# Altium integrated library ST Simple PLD.IntLib: 38 symbols
Pins are listed as number, name and electrical type; pins without a type are passive.

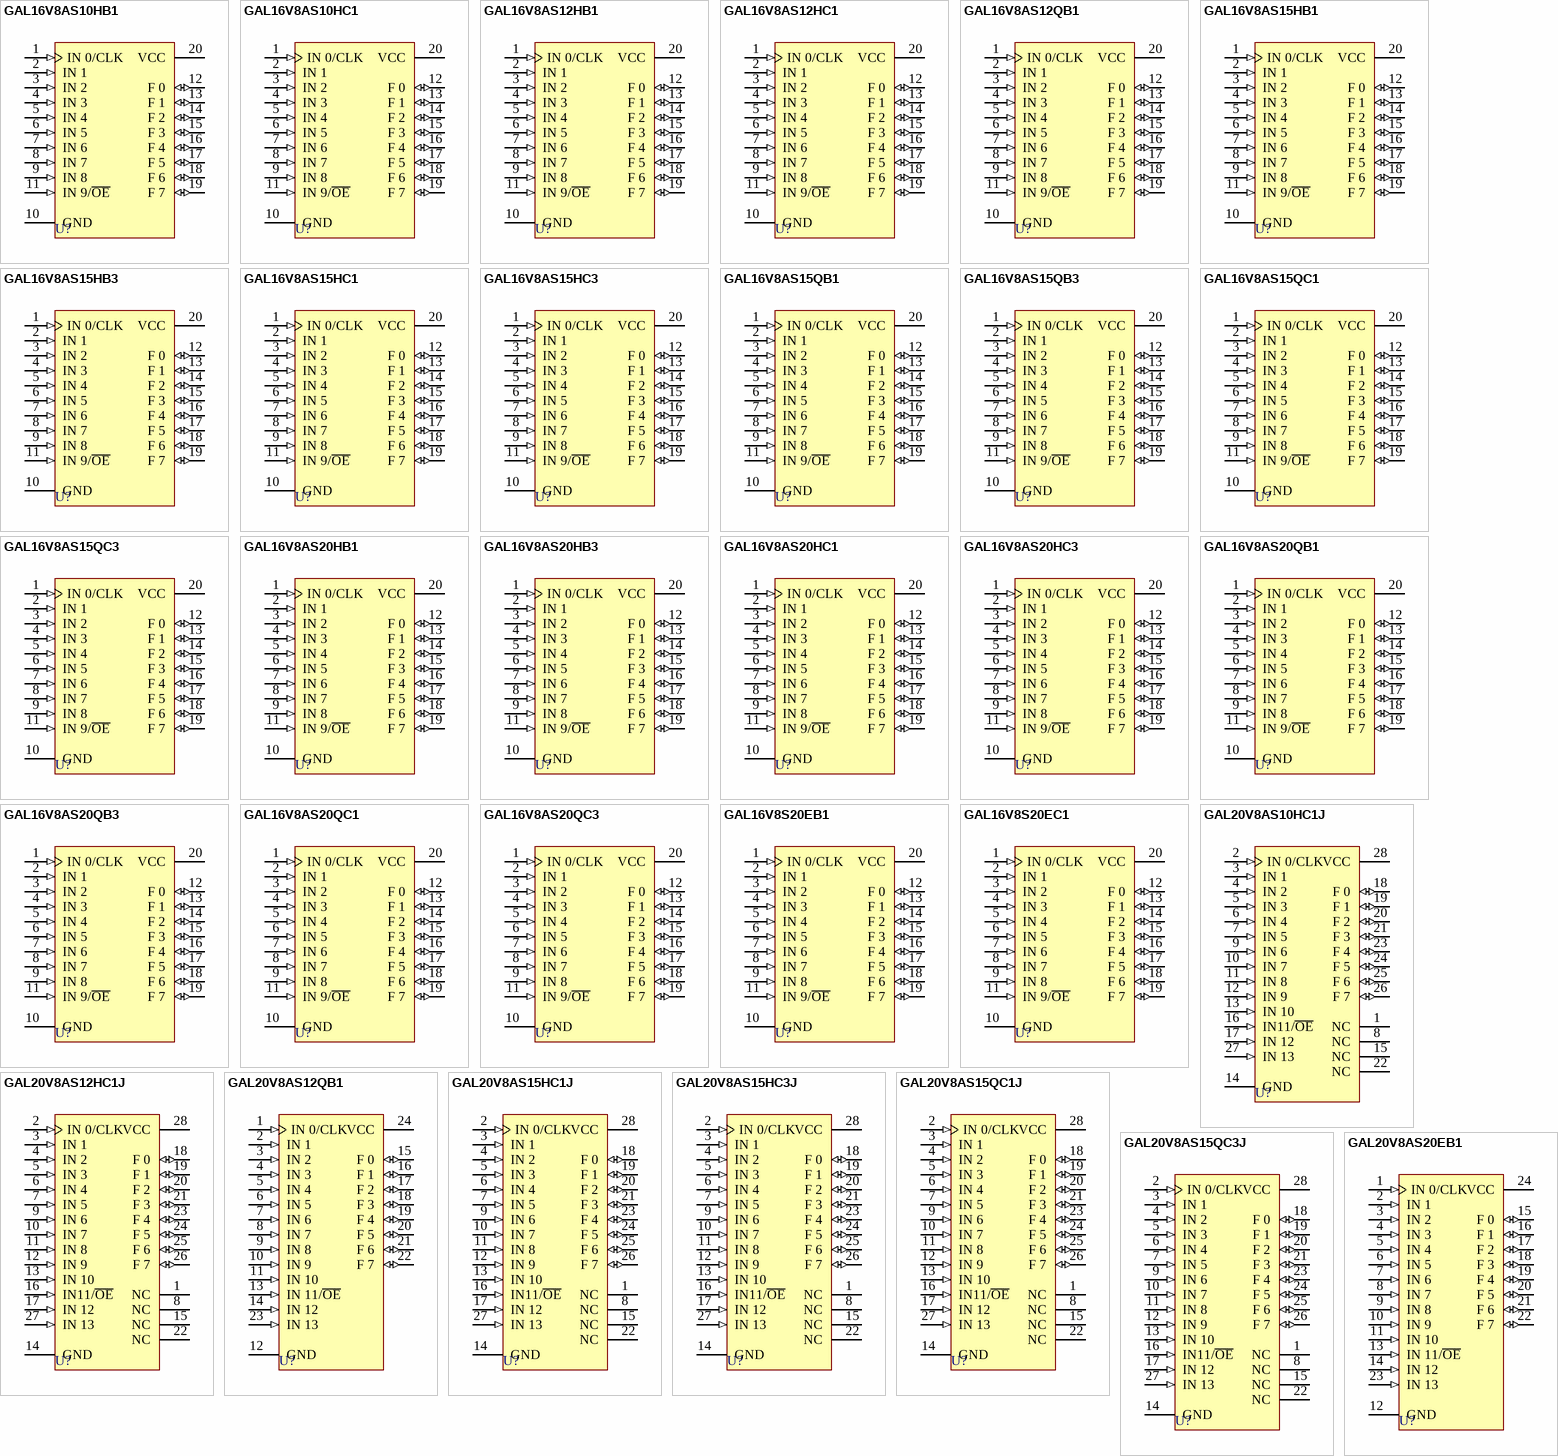
[diagram p0: symbols GAL16V8AS10HB1 to GAL20V8AS20EB1]

## GAL16V8AS10HB1
designator U?
EEPROM CMOS Programmable Logic Device; Published: 24-Aug-2001; LatestRevisionDate: 17-Jul-2002; LatestRevisionNote: Re-released for DXP Platform.; DatasheetDocument: Mar-1992; PackageDocument: Jun-1998; PackageReference: DIP20; Publisher: Altium Limited; Code_JEDEC: MS-015-AE
footprint DIP20 (DIP; 20 Leads; Row Spacing 7.62 mm; Pitch 2.54 mm)
pins: 1 IN 0/CLK (in), 2 IN 1 (in), 3 IN 2 (in), 4 IN 3 (in), 5 IN 4 (in), 6 IN 5 (in), 7 IN 6 (in), 8 IN 7 (in), 9 IN 8 (in), 10 GND (power), 11 IN 9/~{OE} (in), 12 F 0 (io), 13 F 1 (io), 14 F 2 (io), 15 F 3 (io), 16 F 4 (io), 17 F 5 (io), 18 F 6 (io), 19 F 7 (io), 20 VCC (power)

## GAL16V8AS10HC1
designator U?
EEPROM CMOS Programmable Logic Device; Published: 24-Aug-2001; LatestRevisionDate: 17-Jul-2002; LatestRevisionNote: Re-released for DXP Platform.; DatasheetDocument: Mar-1992; PackageDocument: Mar-1992; PackageReference: PLCC20; Publisher: Altium Limited
footprint PLCC20 (Leaded Chip Carrier; 20 Leads; Body 9 x 9 mm)
pins: 1 IN 0/CLK (in), 2 IN 1 (in), 3 IN 2 (in), 4 IN 3 (in), 5 IN 4 (in), 6 IN 5 (in), 7 IN 6 (in), 8 IN 7 (in), 9 IN 8 (in), 10 GND (power), 11 IN 9/~{OE} (in), 12 F 0 (io), 13 F 1 (io), 14 F 2 (io), 15 F 3 (io), 16 F 4 (io), 17 F 5 (io), 18 F 6 (io), 19 F 7 (io), 20 VCC (power)

## GAL16V8AS12HB1
designator U?
EEPROM CMOS Programmable Logic Device; Published: 24-Aug-2001; LatestRevisionDate: 17-Jul-2002; LatestRevisionNote: Re-released for DXP Platform.; DatasheetDocument: Mar-1992; PackageDocument: Jun-1998; PackageReference: DIP20; Publisher: Altium Limited; Code_JEDEC: MS-015-AE
footprint DIP20 (DIP; 20 Leads; Row Spacing 7.62 mm; Pitch 2.54 mm)
pins: 1 IN 0/CLK (in), 2 IN 1 (in), 3 IN 2 (in), 4 IN 3 (in), 5 IN 4 (in), 6 IN 5 (in), 7 IN 6 (in), 8 IN 7 (in), 9 IN 8 (in), 10 GND (power), 11 IN 9/~{OE} (in), 12 F 0 (io), 13 F 1 (io), 14 F 2 (io), 15 F 3 (io), 16 F 4 (io), 17 F 5 (io), 18 F 6 (io), 19 F 7 (io), 20 VCC (power)

## GAL16V8AS12HC1
designator U?
EEPROM CMOS Programmable Logic Device; Published: 24-Aug-2001; LatestRevisionDate: 17-Jul-2002; LatestRevisionNote: Re-released for DXP Platform.; DatasheetDocument: Mar-1992; PackageDocument: Mar-1992; PackageReference: PLCC20; Publisher: Altium Limited
footprint PLCC20 (Leaded Chip Carrier; 20 Leads; Body 9 x 9 mm)
pins: 1 IN 0/CLK (in), 2 IN 1 (in), 3 IN 2 (in), 4 IN 3 (in), 5 IN 4 (in), 6 IN 5 (in), 7 IN 6 (in), 8 IN 7 (in), 9 IN 8 (in), 10 GND (power), 11 IN 9/~{OE} (in), 12 F 0 (io), 13 F 1 (io), 14 F 2 (io), 15 F 3 (io), 16 F 4 (io), 17 F 5 (io), 18 F 6 (io), 19 F 7 (io), 20 VCC (power)

## GAL16V8AS12QB1
designator U?
EEPROM CMOS Programmable Logic Device; Published: 24-Aug-2001; LatestRevisionDate: 17-Jul-2002; LatestRevisionNote: Re-released for DXP Platform.; DatasheetDocument: Mar-1992; PackageDocument: Jun-1998; PackageReference: DIP20; Publisher: Altium Limited; Code_JEDEC: MS-015-AE
footprint DIP20 (DIP; 20 Leads; Row Spacing 7.62 mm; Pitch 2.54 mm)
pins: 1 IN 0/CLK (in), 2 IN 1 (in), 3 IN 2 (in), 4 IN 3 (in), 5 IN 4 (in), 6 IN 5 (in), 7 IN 6 (in), 8 IN 7 (in), 9 IN 8 (in), 10 GND (power), 11 IN 9/~{OE} (in), 12 F 0 (io), 13 F 1 (io), 14 F 2 (io), 15 F 3 (io), 16 F 4 (io), 17 F 5 (io), 18 F 6 (io), 19 F 7 (io), 20 VCC (power)

## GAL16V8AS15HB1
designator U?
EEPROM CMOS Programmable Logic Device; Published: 24-Aug-2001; LatestRevisionDate: 17-Jul-2002; LatestRevisionNote: Re-released for DXP Platform.; DatasheetDocument: Mar-1992; PackageDocument: Jun-1998; PackageReference: DIP20; Publisher: Altium Limited; Code_JEDEC: MS-015-AE
footprint DIP20 (DIP; 20 Leads; Row Spacing 7.62 mm; Pitch 2.54 mm)
pins: 1 IN 0/CLK (in), 2 IN 1 (in), 3 IN 2 (in), 4 IN 3 (in), 5 IN 4 (in), 6 IN 5 (in), 7 IN 6 (in), 8 IN 7 (in), 9 IN 8 (in), 10 GND (power), 11 IN 9/~{OE} (in), 12 F 0 (io), 13 F 1 (io), 14 F 2 (io), 15 F 3 (io), 16 F 4 (io), 17 F 5 (io), 18 F 6 (io), 19 F 7 (io), 20 VCC (power)

## GAL16V8AS15HB3
designator U?
EEPROM CMOS Programmable Logic Device; Published: 24-Aug-2001; LatestRevisionDate: 17-Jul-2002; LatestRevisionNote: Re-released for DXP Platform.; DatasheetDocument: Mar-1992; PackageDocument: Jun-1998; PackageReference: DIP20; Publisher: Altium Limited; Code_JEDEC: MS-015-AE
footprint DIP20 (DIP; 20 Leads; Row Spacing 7.62 mm; Pitch 2.54 mm)
pins: 1 IN 0/CLK (in), 2 IN 1 (in), 3 IN 2 (in), 4 IN 3 (in), 5 IN 4 (in), 6 IN 5 (in), 7 IN 6 (in), 8 IN 7 (in), 9 IN 8 (in), 10 GND (power), 11 IN 9/~{OE} (in), 12 F 0 (io), 13 F 1 (io), 14 F 2 (io), 15 F 3 (io), 16 F 4 (io), 17 F 5 (io), 18 F 6 (io), 19 F 7 (io), 20 VCC (power)

## GAL16V8AS15HC1
designator U?
EEPROM CMOS Programmable Logic Device; Published: 24-Aug-2001; LatestRevisionDate: 17-Jul-2002; LatestRevisionNote: Re-released for DXP Platform.; DatasheetDocument: Mar-1992; PackageDocument: Mar-1992; PackageReference: PLCC20; Publisher: Altium Limited
footprint PLCC20 (Leaded Chip Carrier; 20 Leads; Body 9 x 9 mm)
pins: 1 IN 0/CLK (in), 2 IN 1 (in), 3 IN 2 (in), 4 IN 3 (in), 5 IN 4 (in), 6 IN 5 (in), 7 IN 6 (in), 8 IN 7 (in), 9 IN 8 (in), 10 GND (power), 11 IN 9/~{OE} (in), 12 F 0 (io), 13 F 1 (io), 14 F 2 (io), 15 F 3 (io), 16 F 4 (io), 17 F 5 (io), 18 F 6 (io), 19 F 7 (io), 20 VCC (power)

## GAL16V8AS15HC3
designator U?
EEPROM CMOS Programmable Logic Device; Published: 24-Aug-2001; LatestRevisionDate: 17-Jul-2002; LatestRevisionNote: Re-released for DXP Platform.; DatasheetDocument: Mar-1992; PackageDocument: Mar-1992; PackageReference: PLCC20; Publisher: Altium Limited
footprint PLCC20 (Leaded Chip Carrier; 20 Leads; Body 9 x 9 mm)
pins: 1 IN 0/CLK (in), 2 IN 1 (in), 3 IN 2 (in), 4 IN 3 (in), 5 IN 4 (in), 6 IN 5 (in), 7 IN 6 (in), 8 IN 7 (in), 9 IN 8 (in), 10 GND (power), 11 IN 9/~{OE} (in), 12 F 0 (io), 13 F 1 (io), 14 F 2 (io), 15 F 3 (io), 16 F 4 (io), 17 F 5 (io), 18 F 6 (io), 19 F 7 (io), 20 VCC (power)

## GAL16V8AS15QB1
designator U?
EEPROM CMOS Programmable Logic Device; Published: 24-Aug-2001; LatestRevisionDate: 17-Jul-2002; LatestRevisionNote: Re-released for DXP Platform.; DatasheetDocument: Mar-1992; PackageDocument: Jun-1998; PackageReference: DIP20; Publisher: Altium Limited; Code_JEDEC: MS-015-AE
footprint DIP20 (DIP; 20 Leads; Row Spacing 7.62 mm; Pitch 2.54 mm)
pins: 1 IN 0/CLK (in), 2 IN 1 (in), 3 IN 2 (in), 4 IN 3 (in), 5 IN 4 (in), 6 IN 5 (in), 7 IN 6 (in), 8 IN 7 (in), 9 IN 8 (in), 10 GND (power), 11 IN 9/~{OE} (in), 12 F 0 (io), 13 F 1 (io), 14 F 2 (io), 15 F 3 (io), 16 F 4 (io), 17 F 5 (io), 18 F 6 (io), 19 F 7 (io), 20 VCC (power)

## GAL16V8AS15QB3
designator U?
EEPROM CMOS Programmable Logic Device; Published: 24-Aug-2001; LatestRevisionDate: 17-Jul-2002; LatestRevisionNote: Re-released for DXP Platform.; DatasheetDocument: Mar-1992; PackageDocument: Jun-1998; PackageReference: DIP20; Publisher: Altium Limited; Code_JEDEC: MS-015-AE
footprint DIP20 (DIP; 20 Leads; Row Spacing 7.62 mm; Pitch 2.54 mm)
pins: 1 IN 0/CLK (in), 2 IN 1 (in), 3 IN 2 (in), 4 IN 3 (in), 5 IN 4 (in), 6 IN 5 (in), 7 IN 6 (in), 8 IN 7 (in), 9 IN 8 (in), 10 GND (power), 11 IN 9/~{OE} (in), 12 F 0 (io), 13 F 1 (io), 14 F 2 (io), 15 F 3 (io), 16 F 4 (io), 17 F 5 (io), 18 F 6 (io), 19 F 7 (io), 20 VCC (power)

## GAL16V8AS15QC1
designator U?
EEPROM CMOS Programmable Logic Device; Published: 24-Aug-2001; LatestRevisionDate: 17-Jul-2002; LatestRevisionNote: Re-released for DXP Platform.; DatasheetDocument: Mar-1992; PackageDocument: Mar-1992; PackageReference: PLCC20; Publisher: Altium Limited
footprint PLCC20 (Leaded Chip Carrier; 20 Leads; Body 9 x 9 mm)
pins: 1 IN 0/CLK (in), 2 IN 1 (in), 3 IN 2 (in), 4 IN 3 (in), 5 IN 4 (in), 6 IN 5 (in), 7 IN 6 (in), 8 IN 7 (in), 9 IN 8 (in), 10 GND (power), 11 IN 9/~{OE} (in), 12 F 0 (io), 13 F 1 (io), 14 F 2 (io), 15 F 3 (io), 16 F 4 (io), 17 F 5 (io), 18 F 6 (io), 19 F 7 (io), 20 VCC (power)

## GAL16V8AS15QC3
designator U?
EEPROM CMOS Programmable Logic Device; Published: 24-Aug-2001; LatestRevisionDate: 17-Jul-2002; LatestRevisionNote: Re-released for DXP Platform.; DatasheetDocument: Mar-1992; PackageDocument: Mar-1992; PackageReference: PLCC20; Publisher: Altium Limited
footprint PLCC20 (Leaded Chip Carrier; 20 Leads; Body 9 x 9 mm)
pins: 1 IN 0/CLK (in), 2 IN 1 (in), 3 IN 2 (in), 4 IN 3 (in), 5 IN 4 (in), 6 IN 5 (in), 7 IN 6 (in), 8 IN 7 (in), 9 IN 8 (in), 10 GND (power), 11 IN 9/~{OE} (in), 12 F 0 (io), 13 F 1 (io), 14 F 2 (io), 15 F 3 (io), 16 F 4 (io), 17 F 5 (io), 18 F 6 (io), 19 F 7 (io), 20 VCC (power)

## GAL16V8AS20HB1
designator U?
EEPROM CMOS Programmable Logic Device; Published: 24-Aug-2001; LatestRevisionDate: 17-Jul-2002; LatestRevisionNote: Re-released for DXP Platform.; DatasheetDocument: Mar-1992; PackageDocument: Jun-1998; PackageReference: DIP20; Publisher: Altium Limited; Code_JEDEC: MS-015-AE
footprint DIP20 (DIP; 20 Leads; Row Spacing 7.62 mm; Pitch 2.54 mm)
pins: 1 IN 0/CLK (in), 2 IN 1 (in), 3 IN 2 (in), 4 IN 3 (in), 5 IN 4 (in), 6 IN 5 (in), 7 IN 6 (in), 8 IN 7 (in), 9 IN 8 (in), 10 GND (power), 11 IN 9/~{OE} (in), 12 F 0 (io), 13 F 1 (io), 14 F 2 (io), 15 F 3 (io), 16 F 4 (io), 17 F 5 (io), 18 F 6 (io), 19 F 7 (io), 20 VCC (power)

## GAL16V8AS20HB3
designator U?
EEPROM CMOS Programmable Logic Device; Published: 24-Aug-2001; LatestRevisionDate: 17-Jul-2002; LatestRevisionNote: Re-released for DXP Platform.; DatasheetDocument: Mar-1992; PackageDocument: Jun-1998; PackageReference: DIP20; Publisher: Altium Limited; Code_JEDEC: MS-015-AE
footprint DIP20 (DIP; 20 Leads; Row Spacing 7.62 mm; Pitch 2.54 mm)
pins: 1 IN 0/CLK (in), 2 IN 1 (in), 3 IN 2 (in), 4 IN 3 (in), 5 IN 4 (in), 6 IN 5 (in), 7 IN 6 (in), 8 IN 7 (in), 9 IN 8 (in), 10 GND (power), 11 IN 9/~{OE} (in), 12 F 0 (io), 13 F 1 (io), 14 F 2 (io), 15 F 3 (io), 16 F 4 (io), 17 F 5 (io), 18 F 6 (io), 19 F 7 (io), 20 VCC (power)

## GAL16V8AS20HC1
designator U?
EEPROM CMOS Programmable Logic Device; Published: 24-Aug-2001; LatestRevisionDate: 17-Jul-2002; LatestRevisionNote: Re-released for DXP Platform.; DatasheetDocument: Mar-1992; PackageDocument: Mar-1992; PackageReference: PLCC20; Publisher: Altium Limited
footprint PLCC20 (Leaded Chip Carrier; 20 Leads; Body 9 x 9 mm)
pins: 1 IN 0/CLK (in), 2 IN 1 (in), 3 IN 2 (in), 4 IN 3 (in), 5 IN 4 (in), 6 IN 5 (in), 7 IN 6 (in), 8 IN 7 (in), 9 IN 8 (in), 10 GND (power), 11 IN 9/~{OE} (in), 12 F 0 (io), 13 F 1 (io), 14 F 2 (io), 15 F 3 (io), 16 F 4 (io), 17 F 5 (io), 18 F 6 (io), 19 F 7 (io), 20 VCC (power)

## GAL16V8AS20HC3
designator U?
EEPROM CMOS Programmable Logic Device; Published: 24-Aug-2001; LatestRevisionDate: 17-Jul-2002; LatestRevisionNote: Re-released for DXP Platform.; DatasheetDocument: Mar-1992; PackageDocument: Mar-1992; PackageReference: PLCC20; Publisher: Altium Limited
footprint PLCC20 (Leaded Chip Carrier; 20 Leads; Body 9 x 9 mm)
pins: 1 IN 0/CLK (in), 2 IN 1 (in), 3 IN 2 (in), 4 IN 3 (in), 5 IN 4 (in), 6 IN 5 (in), 7 IN 6 (in), 8 IN 7 (in), 9 IN 8 (in), 10 GND (power), 11 IN 9/~{OE} (in), 12 F 0 (io), 13 F 1 (io), 14 F 2 (io), 15 F 3 (io), 16 F 4 (io), 17 F 5 (io), 18 F 6 (io), 19 F 7 (io), 20 VCC (power)

## GAL16V8AS20QB1
designator U?
EEPROM CMOS Programmable Logic Device; Published: 24-Aug-2001; LatestRevisionDate: 17-Jul-2002; LatestRevisionNote: Re-released for DXP Platform.; DatasheetDocument: Mar-1992; PackageDocument: Jun-1998; PackageReference: DIP20; Publisher: Altium Limited; Code_JEDEC: MS-015-AE
footprint DIP20 (DIP; 20 Leads; Row Spacing 7.62 mm; Pitch 2.54 mm)
pins: 1 IN 0/CLK (in), 2 IN 1 (in), 3 IN 2 (in), 4 IN 3 (in), 5 IN 4 (in), 6 IN 5 (in), 7 IN 6 (in), 8 IN 7 (in), 9 IN 8 (in), 10 GND (power), 11 IN 9/~{OE} (in), 12 F 0 (io), 13 F 1 (io), 14 F 2 (io), 15 F 3 (io), 16 F 4 (io), 17 F 5 (io), 18 F 6 (io), 19 F 7 (io), 20 VCC (power)

## GAL16V8AS20QB3
designator U?
EEPROM CMOS Programmable Logic Device; Published: 24-Aug-2001; LatestRevisionDate: 17-Jul-2002; LatestRevisionNote: Re-released for DXP Platform.; DatasheetDocument: Mar-1992; PackageDocument: Jun-1998; PackageReference: DIP20; Publisher: Altium Limited; Code_JEDEC: MS-015-AE
footprint DIP20 (DIP; 20 Leads; Row Spacing 7.62 mm; Pitch 2.54 mm)
pins: 1 IN 0/CLK (in), 2 IN 1 (in), 3 IN 2 (in), 4 IN 3 (in), 5 IN 4 (in), 6 IN 5 (in), 7 IN 6 (in), 8 IN 7 (in), 9 IN 8 (in), 10 GND (power), 11 IN 9/~{OE} (in), 12 F 0 (io), 13 F 1 (io), 14 F 2 (io), 15 F 3 (io), 16 F 4 (io), 17 F 5 (io), 18 F 6 (io), 19 F 7 (io), 20 VCC (power)

## GAL16V8AS20QC1
designator U?
EEPROM CMOS Programmable Logic Device; Published: 24-Aug-2001; LatestRevisionDate: 17-Jul-2002; LatestRevisionNote: Re-released for DXP Platform.; DatasheetDocument: Mar-1992; PackageDocument: Mar-1992; PackageReference: PLCC20; Publisher: Altium Limited
footprint PLCC20 (Leaded Chip Carrier; 20 Leads; Body 9 x 9 mm)
pins: 1 IN 0/CLK (in), 2 IN 1 (in), 3 IN 2 (in), 4 IN 3 (in), 5 IN 4 (in), 6 IN 5 (in), 7 IN 6 (in), 8 IN 7 (in), 9 IN 8 (in), 10 GND (power), 11 IN 9/~{OE} (in), 12 F 0 (io), 13 F 1 (io), 14 F 2 (io), 15 F 3 (io), 16 F 4 (io), 17 F 5 (io), 18 F 6 (io), 19 F 7 (io), 20 VCC (power)

## GAL16V8AS20QC3
designator U?
EEPROM CMOS Programmable Logic Device; Published: 24-Aug-2001; LatestRevisionDate: 17-Jul-2002; LatestRevisionNote: Re-released for DXP Platform.; DatasheetDocument: Mar-1992; PackageDocument: Mar-1992; PackageReference: PLCC20; Publisher: Altium Limited
footprint PLCC20 (Leaded Chip Carrier; 20 Leads; Body 9 x 9 mm)
pins: 1 IN 0/CLK (in), 2 IN 1 (in), 3 IN 2 (in), 4 IN 3 (in), 5 IN 4 (in), 6 IN 5 (in), 7 IN 6 (in), 8 IN 7 (in), 9 IN 8 (in), 10 GND (power), 11 IN 9/~{OE} (in), 12 F 0 (io), 13 F 1 (io), 14 F 2 (io), 15 F 3 (io), 16 F 4 (io), 17 F 5 (io), 18 F 6 (io), 19 F 7 (io), 20 VCC (power)

## GAL16V8S20EB1
designator U?
EEPROM CMOS Programmable Logic Device; Published: 24-Aug-2001; LatestRevisionDate: 17-Jul-2002; LatestRevisionNote: Re-released for DXP Platform.; DatasheetDocument: Mar-1992; PackageDocument: Jun-1998; PackageReference: DIP20; Publisher: Altium Limited; Code_JEDEC: MS-015-AE
footprint DIP20 (DIP; 20 Leads; Row Spacing 7.62 mm; Pitch 2.54 mm)
pins: 1 IN 0/CLK (in), 2 IN 1 (in), 3 IN 2 (in), 4 IN 3 (in), 5 IN 4 (in), 6 IN 5 (in), 7 IN 6 (in), 8 IN 7 (in), 9 IN 8 (in), 10 GND (power), 11 IN 9/~{OE} (in), 12 F 0 (io), 13 F 1 (io), 14 F 2 (io), 15 F 3 (io), 16 F 4 (io), 17 F 5 (io), 18 F 6 (io), 19 F 7 (io), 20 VCC (power)

## GAL16V8S20EC1
designator U?
EEPROM CMOS Programmable Logic Device; Published: 24-Aug-2001; LatestRevisionDate: 17-Jul-2002; LatestRevisionNote: Re-released for DXP Platform.; DatasheetDocument: Mar-1992; PackageDocument: Mar-1992; PackageReference: PLCC20; Publisher: Altium Limited
footprint PLCC20 (Leaded Chip Carrier; 20 Leads; Body 9 x 9 mm)
pins: 1 IN 0/CLK (in), 2 IN 1 (in), 3 IN 2 (in), 4 IN 3 (in), 5 IN 4 (in), 6 IN 5 (in), 7 IN 6 (in), 8 IN 7 (in), 9 IN 8 (in), 10 GND (power), 11 IN 9/~{OE} (in), 12 F 0 (io), 13 F 1 (io), 14 F 2 (io), 15 F 3 (io), 16 F 4 (io), 17 F 5 (io), 18 F 6 (io), 19 F 7 (io), 20 VCC (power)

## GAL20V8AS10HC1J
designator U?
EEPROM CMOS Programmable Logic Device; Note: Pin numbers 1, 8, 15 and 22 are Not Connected (NC).; Published: 24-Aug-2001; LatestRevisionDate: 17-Jul-2002; LatestRevisionNote: Re-released for DXP Platform.; DatasheetDocument: Mar-1992; PackageDocument: Jan-1995; PackageReference: PLCC28; Publisher: Altium Limited; Code_IPC: PLCC-28
footprint PLCC28 (Leaded Chip Carrier; 28 Leads; Body 11.5 x 11.5 mm)
pins: 1 NC, 2 IN 0/CLK (in), 3 IN 1 (in), 4 IN 2 (in), 5 IN 3 (in), 6 IN 4 (in), 7 IN 5 (in), 8 NC, 9 IN 6 (in), 10 IN 7 (in), 11 IN 8 (in), 12 IN 9 (in), 13 IN 10 (in), 14 GND (power), 15 NC, 16 IN11/~{OE} (in), 17 IN 12 (in), 18 F 0 (io), 19 F 1 (io), 20 F 2 (io), 21 F 3 (io), 22 NC, 23 F 4 (io), 24 F 5 (io), 25 F 6 (io), 26 F 7 (io), 27 IN 13 (in), 28 VCC (power)

## GAL20V8AS12HC1J
designator U?
EEPROM CMOS Programmable Logic Device; Note: Pin numbers 1, 8, 15 and 22 are Not Connected (NC).; Published: 24-Aug-2001; LatestRevisionDate: 17-Jul-2002; LatestRevisionNote: Re-released for DXP Platform.; DatasheetDocument: Mar-1992; PackageDocument: Jan-1995; PackageReference: PLCC28; Publisher: Altium Limited; Code_IPC: PLCC-28
footprint PLCC28 (Leaded Chip Carrier; 28 Leads; Body 11.5 x 11.5 mm)
pins: 1 NC, 2 IN 0/CLK (in), 3 IN 1 (in), 4 IN 2 (in), 5 IN 3 (in), 6 IN 4 (in), 7 IN 5 (in), 8 NC, 9 IN 6 (in), 10 IN 7 (in), 11 IN 8 (in), 12 IN 9 (in), 13 IN 10 (in), 14 GND (power), 15 NC, 16 IN11/~{OE} (in), 17 IN 12 (in), 18 F 0 (io), 19 F 1 (io), 20 F 2 (io), 21 F 3 (io), 22 NC, 23 F 4 (io), 24 F 5 (io), 25 F 6 (io), 26 F 7 (io), 27 IN 13 (in), 28 VCC (power)

## GAL20V8AS12QB1
designator U?
EEPROM CMOS Programmable Logic Device; Published: 24-Aug-2001; LatestRevisionDate: 17-Jul-2002; LatestRevisionNote: Re-released for DXP Platform.; DatasheetDocument: Mar-1992; PackageDocument: Mar-1992; PackageReference: DIP24; Publisher: Altium Limited; Code_JEDEC: MS-001-AF
footprint DIP24 (DIP; 24 Leads; Row Spacing 7.62 mm; Pitch 2.54 mm)
pins: 1 IN 0/CLK (in), 2 IN 1 (in), 3 IN 2 (in), 4 IN 3 (in), 5 IN 4 (in), 6 IN 5 (in), 7 IN 6 (in), 8 IN 7 (in), 9 IN 8 (in), 10 IN 9 (in), 11 IN 10 (in), 12 GND (power), 13 IN 11/~{OE} (in), 14 IN 12 (in), 15 F 0 (io), 16 F 1 (io), 17 F 2 (io), 18 F 3 (io), 19 F 4 (io), 20 F 5 (io), 21 F 6 (io), 22 F 7 (io), 23 IN 13 (in), 24 VCC (power)

## GAL20V8AS15HC1J
designator U?
EEPROM CMOS Programmable Logic Device; Note: Pin numbers 1, 8, 15 and 22 are Not Connected (NC).; Published: 24-Aug-2001; LatestRevisionDate: 17-Jul-2002; LatestRevisionNote: Re-released for DXP Platform.; DatasheetDocument: Mar-1992; PackageDocument: Jan-1995; PackageReference: PLCC28; Publisher: Altium Limited; Code_IPC: PLCC-28
footprint PLCC28 (Leaded Chip Carrier; 28 Leads; Body 11.5 x 11.5 mm)
pins: 1 NC, 2 IN 0/CLK (in), 3 IN 1 (in), 4 IN 2 (in), 5 IN 3 (in), 6 IN 4 (in), 7 IN 5 (in), 8 NC, 9 IN 6 (in), 10 IN 7 (in), 11 IN 8 (in), 12 IN 9 (in), 13 IN 10 (in), 14 GND (power), 15 NC, 16 IN11/~{OE} (in), 17 IN 12 (in), 18 F 0 (io), 19 F 1 (io), 20 F 2 (io), 21 F 3 (io), 22 NC, 23 F 4 (io), 24 F 5 (io), 25 F 6 (io), 26 F 7 (io), 27 IN 13 (in), 28 VCC (power)

## GAL20V8AS15HC3J
designator U?
EEPROM CMOS Programmable Logic Device; Note: Pin numbers 1, 8, 15 and 22 are Not Connected (NC).; Published: 24-Aug-2001; LatestRevisionDate: 17-Jul-2002; LatestRevisionNote: Re-released for DXP Platform.; DatasheetDocument: Mar-1992; PackageDocument: Jan-1995; PackageReference: PLCC28; Publisher: Altium Limited; Code_IPC: PLCC-28
footprint PLCC28 (Leaded Chip Carrier; 28 Leads; Body 11.5 x 11.5 mm)
pins: 1 NC, 2 IN 0/CLK (in), 3 IN 1 (in), 4 IN 2 (in), 5 IN 3 (in), 6 IN 4 (in), 7 IN 5 (in), 8 NC, 9 IN 6 (in), 10 IN 7 (in), 11 IN 8 (in), 12 IN 9 (in), 13 IN 10 (in), 14 GND (power), 15 NC, 16 IN11/~{OE} (in), 17 IN 12 (in), 18 F 0 (io), 19 F 1 (io), 20 F 2 (io), 21 F 3 (io), 22 NC, 23 F 4 (io), 24 F 5 (io), 25 F 6 (io), 26 F 7 (io), 27 IN 13 (in), 28 VCC (power)

## GAL20V8AS15QC1J
designator U?
EEPROM CMOS Programmable Logic Device; Note: Pin numbers 1, 8, 15 and 22 are Not Connected (NC).; Published: 24-Aug-2001; LatestRevisionDate: 17-Jul-2002; LatestRevisionNote: Re-released for DXP Platform.; DatasheetDocument: Mar-1992; PackageDocument: Jan-1995; PackageReference: PLCC28; Publisher: Altium Limited; Code_IPC: PLCC-28
footprint PLCC28 (Leaded Chip Carrier; 28 Leads; Body 11.5 x 11.5 mm)
pins: 1 NC, 2 IN 0/CLK (in), 3 IN 1 (in), 4 IN 2 (in), 5 IN 3 (in), 6 IN 4 (in), 7 IN 5 (in), 8 NC, 9 IN 6 (in), 10 IN 7 (in), 11 IN 8 (in), 12 IN 9 (in), 13 IN 10 (in), 14 GND (power), 15 NC, 16 IN11/~{OE} (in), 17 IN 12 (in), 18 F 0 (io), 19 F 1 (io), 20 F 2 (io), 21 F 3 (io), 22 NC, 23 F 4 (io), 24 F 5 (io), 25 F 6 (io), 26 F 7 (io), 27 IN 13 (in), 28 VCC (power)

## GAL20V8AS15QC3J
designator U?
EEPROM CMOS Programmable Logic Device; Note: Pin numbers 1, 8, 15 and 22 are Not Connected (NC).; Published: 24-Aug-2001; LatestRevisionDate: 17-Jul-2002; LatestRevisionNote: Re-released for DXP Platform.; DatasheetDocument: Mar-1992; PackageDocument: Jan-1995; PackageReference: PLCC28; Publisher: Altium Limited; Code_IPC: PLCC-28
footprint PLCC28 (Leaded Chip Carrier; 28 Leads; Body 11.5 x 11.5 mm)
pins: 1 NC, 2 IN 0/CLK (in), 3 IN 1 (in), 4 IN 2 (in), 5 IN 3 (in), 6 IN 4 (in), 7 IN 5 (in), 8 NC, 9 IN 6 (in), 10 IN 7 (in), 11 IN 8 (in), 12 IN 9 (in), 13 IN 10 (in), 14 GND (power), 15 NC, 16 IN11/~{OE} (in), 17 IN 12 (in), 18 F 0 (io), 19 F 1 (io), 20 F 2 (io), 21 F 3 (io), 22 NC, 23 F 4 (io), 24 F 5 (io), 25 F 6 (io), 26 F 7 (io), 27 IN 13 (in), 28 VCC (power)

## GAL20V8AS20EB1
designator U?
EEPROM CMOS Programmable Logic Device; Published: 24-Aug-2001; LatestRevisionDate: 17-Jul-2002; LatestRevisionNote: Re-released for DXP Platform.; DatasheetDocument: Mar-1992; PackageDocument: Mar-1992; PackageReference: DIP24; Publisher: Altium Limited; Code_JEDEC: MS-001-AF
footprint DIP24 (DIP; 24 Leads; Row Spacing 7.62 mm; Pitch 2.54 mm)
pins: 1 IN 0/CLK (in), 2 IN 1 (in), 3 IN 2 (in), 4 IN 3 (in), 5 IN 4 (in), 6 IN 5 (in), 7 IN 6 (in), 8 IN 7 (in), 9 IN 8 (in), 10 IN 9 (in), 11 IN 10 (in), 12 GND (power), 13 IN 11/~{OE} (in), 14 IN 12 (in), 15 F 0 (io), 16 F 1 (io), 17 F 2 (io), 18 F 3 (io), 19 F 4 (io), 20 F 5 (io), 21 F 6 (io), 22 F 7 (io), 23 IN 13 (in), 24 VCC (power)

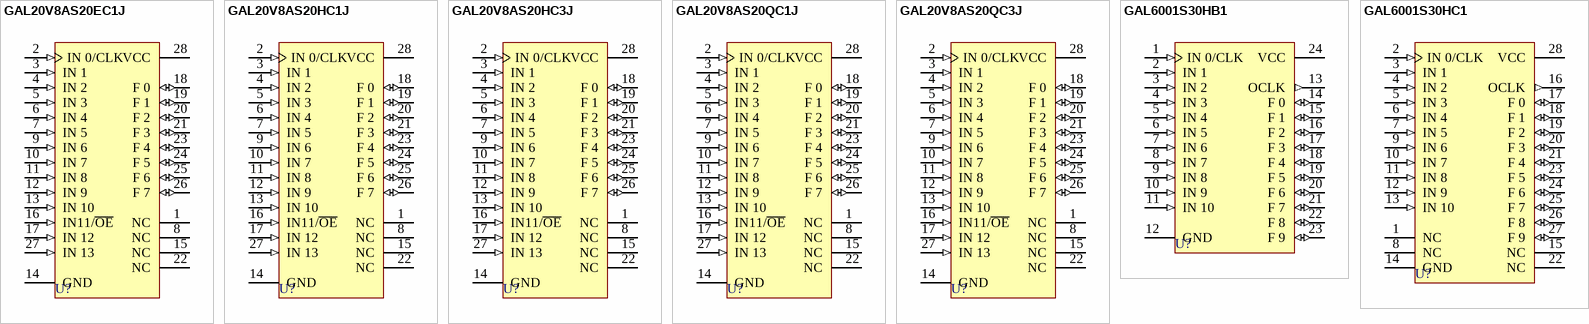
[diagram p1: symbols GAL20V8AS20EC1J to GAL6001S30HC1]

## GAL20V8AS20EC1J
designator U?
EEPROM CMOS Programmable Logic Device; Note: Pin numbers 1, 8, 15 and 22 are Not Connected (NC).; Published: 24-Aug-2001; LatestRevisionDate: 17-Jul-2002; LatestRevisionNote: Re-released for DXP Platform.; DatasheetDocument: Mar-1992; PackageDocument: Jan-1995; PackageReference: PLCC28; Publisher: Altium Limited; Code_IPC: PLCC-28
footprint PLCC28 (Leaded Chip Carrier; 28 Leads; Body 11.5 x 11.5 mm)
pins: 1 NC, 2 IN 0/CLK (in), 3 IN 1 (in), 4 IN 2 (in), 5 IN 3 (in), 6 IN 4 (in), 7 IN 5 (in), 8 NC, 9 IN 6 (in), 10 IN 7 (in), 11 IN 8 (in), 12 IN 9 (in), 13 IN 10 (in), 14 GND (power), 15 NC, 16 IN11/~{OE} (in), 17 IN 12 (in), 18 F 0 (io), 19 F 1 (io), 20 F 2 (io), 21 F 3 (io), 22 NC, 23 F 4 (io), 24 F 5 (io), 25 F 6 (io), 26 F 7 (io), 27 IN 13 (in), 28 VCC (power)

## GAL20V8AS20HC1J
designator U?
EEPROM CMOS Programmable Logic Device; Note: Pin numbers 1, 8, 15 and 22 are Not Connected (NC).; Published: 24-Aug-2001; LatestRevisionDate: 17-Jul-2002; LatestRevisionNote: Re-released for DXP Platform.; DatasheetDocument: Mar-1992; PackageDocument: Jan-1995; PackageReference: PLCC28; Publisher: Altium Limited; Code_IPC: PLCC-28
footprint PLCC28 (Leaded Chip Carrier; 28 Leads; Body 11.5 x 11.5 mm)
pins: 1 NC, 2 IN 0/CLK (in), 3 IN 1 (in), 4 IN 2 (in), 5 IN 3 (in), 6 IN 4 (in), 7 IN 5 (in), 8 NC, 9 IN 6 (in), 10 IN 7 (in), 11 IN 8 (in), 12 IN 9 (in), 13 IN 10 (in), 14 GND (power), 15 NC, 16 IN11/~{OE} (in), 17 IN 12 (in), 18 F 0 (io), 19 F 1 (io), 20 F 2 (io), 21 F 3 (io), 22 NC, 23 F 4 (io), 24 F 5 (io), 25 F 6 (io), 26 F 7 (io), 27 IN 13 (in), 28 VCC (power)

## GAL20V8AS20HC3J
designator U?
EEPROM CMOS Programmable Logic Device; Note: Pin numbers 1, 8, 15 and 22 are Not Connected (NC).; Published: 24-Aug-2001; LatestRevisionDate: 17-Jul-2002; LatestRevisionNote: Re-released for DXP Platform.; DatasheetDocument: Mar-1992; PackageDocument: Jan-1995; PackageReference: PLCC28; Publisher: Altium Limited; Code_IPC: PLCC-28
footprint PLCC28 (Leaded Chip Carrier; 28 Leads; Body 11.5 x 11.5 mm)
pins: 1 NC, 2 IN 0/CLK (in), 3 IN 1 (in), 4 IN 2 (in), 5 IN 3 (in), 6 IN 4 (in), 7 IN 5 (in), 8 NC, 9 IN 6 (in), 10 IN 7 (in), 11 IN 8 (in), 12 IN 9 (in), 13 IN 10 (in), 14 GND (power), 15 NC, 16 IN11/~{OE} (in), 17 IN 12 (in), 18 F 0 (io), 19 F 1 (io), 20 F 2 (io), 21 F 3 (io), 22 NC, 23 F 4 (io), 24 F 5 (io), 25 F 6 (io), 26 F 7 (io), 27 IN 13 (in), 28 VCC (power)

## GAL20V8AS20QC1J
designator U?
EEPROM CMOS Programmable Logic Device; Note: Pin numbers 1, 8, 15 and 22 are Not Connected (NC).; Published: 24-Aug-2001; LatestRevisionDate: 17-Jul-2002; LatestRevisionNote: Re-released for DXP Platform.; DatasheetDocument: Mar-1992; PackageDocument: Jan-1995; PackageReference: PLCC28; Publisher: Altium Limited; Code_IPC: PLCC-28
footprint PLCC28 (Leaded Chip Carrier; 28 Leads; Body 11.5 x 11.5 mm)
pins: 1 NC, 2 IN 0/CLK (in), 3 IN 1 (in), 4 IN 2 (in), 5 IN 3 (in), 6 IN 4 (in), 7 IN 5 (in), 8 NC, 9 IN 6 (in), 10 IN 7 (in), 11 IN 8 (in), 12 IN 9 (in), 13 IN 10 (in), 14 GND (power), 15 NC, 16 IN11/~{OE} (in), 17 IN 12 (in), 18 F 0 (io), 19 F 1 (io), 20 F 2 (io), 21 F 3 (io), 22 NC, 23 F 4 (io), 24 F 5 (io), 25 F 6 (io), 26 F 7 (io), 27 IN 13 (in), 28 VCC (power)

## GAL20V8AS20QC3J
designator U?
EEPROM CMOS Programmable Logic Device; Note: Pin numbers 1, 8, 15 and 22 are Not Connected (NC).; Published: 24-Aug-2001; LatestRevisionDate: 17-Jul-2002; LatestRevisionNote: Re-released for DXP Platform.; DatasheetDocument: Mar-1992; PackageDocument: Jan-1995; PackageReference: PLCC28; Publisher: Altium Limited; Code_IPC: PLCC-28
footprint PLCC28 (Leaded Chip Carrier; 28 Leads; Body 11.5 x 11.5 mm)
pins: 1 NC, 2 IN 0/CLK (in), 3 IN 1 (in), 4 IN 2 (in), 5 IN 3 (in), 6 IN 4 (in), 7 IN 5 (in), 8 NC, 9 IN 6 (in), 10 IN 7 (in), 11 IN 8 (in), 12 IN 9 (in), 13 IN 10 (in), 14 GND (power), 15 NC, 16 IN11/~{OE} (in), 17 IN 12 (in), 18 F 0 (io), 19 F 1 (io), 20 F 2 (io), 21 F 3 (io), 22 NC, 23 F 4 (io), 24 F 5 (io), 25 F 6 (io), 26 F 7 (io), 27 IN 13 (in), 28 VCC (power)

## GAL6001S30HB1
designator U?
EEPROM CMOS Programmable Logic Device; Published: 24-Aug-2001; LatestRevisionDate: 17-Jul-2002; LatestRevisionNote: Re-released for DXP Platform.; DatasheetDocument: Mar-1992; PackageDocument: Mar-1992; PackageReference: DIP24; Publisher: Altium Limited; Code_JEDEC: MS-001-AF
footprint DIP24 (DIP; 24 Leads; Row Spacing 7.62 mm; Pitch 2.54 mm)
pins: 1 IN 0/CLK (in), 2 IN 1 (in), 3 IN 2 (in), 4 IN 3 (in), 5 IN 4 (in), 6 IN 5 (in), 7 IN 6 (in), 8 IN 7 (in), 9 IN 8 (in), 10 IN 9 (in), 11 IN 10 (in), 12 GND (power), 13 OCLK (out), 14 F 0 (io), 15 F 1 (io), 16 F 2 (io), 17 F 3 (io), 18 F 4 (io), 19 F 5 (io), 20 F 6 (io), 21 F 7 (io), 22 F 8 (io), 23 F 9 (io), 24 VCC (power)

## GAL6001S30HC1
designator U?
EEPROM CMOS Programmable Logic Device; Note: Pin numbers 1, 8, 15 and 22 are Not Connected (NC).; Published: 24-Aug-2001; LatestRevisionDate: 17-Jul-2002; LatestRevisionNote: Re-released for DXP Platform.; DatasheetDocument: Mar-1992; PackageDocument: Jan-1995; PackageReference: PLCC28; Publisher: Altium Limited; Code_IPC: PLCC-28
footprint PLCC28 (Leaded Chip Carrier; 28 Leads; Body 11.5 x 11.5 mm)
pins: 1 NC, 2 IN 0/CLK (in), 3 IN 1 (in), 4 IN 2 (in), 5 IN 3 (in), 6 IN 4 (in), 7 IN 5 (in), 8 NC, 9 IN 6 (in), 10 IN 7 (in), 11 IN 8 (in), 12 IN 9 (in), 13 IN 10 (in), 14 GND (power), 15 NC, 16 OCLK (out), 17 F 0 (io), 18 F 1 (io), 19 F 2 (io), 20 F 3 (io), 21 F 4 (io), 22 NC, 23 F 5 (io), 24 F 6 (io), 25 F 7 (io), 26 F 8 (io), 27 F 9 (io), 28 VCC (power)